# EAGLE library part TLV272CDG4 (library Texas Instruments_By_element14_Batch_1)
OPERATIONAL AMPLIFIERS
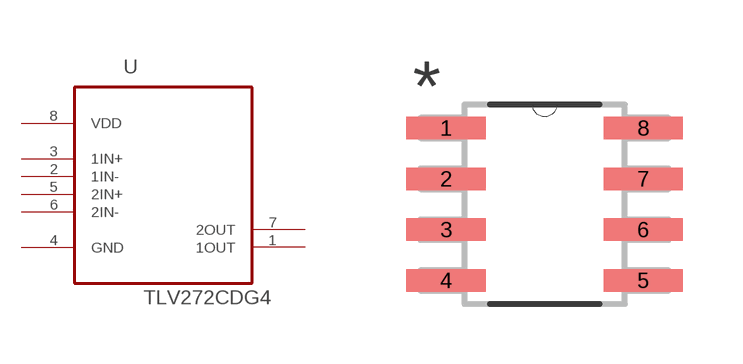
[diagram p0: symbol with the pads of SOIC127P600X175-8N; footprint SOIC127P600X175-8N]

Designator prefix U

## TLV272CDG4 (MPN: TLV272CDG4; OC_FARNELL: 1234856; OC_NEWARK: 13M5572; PACKAGE: SOIC-8; SUPPLIER: TI)  [SOIC127P600X175-8N]
1  1OUT  out
2  1IN-  in
3  1IN+  in
4  GND  pas
5  2IN+  in
6  2IN-  in
7  2OUT  out
8  VDD  pwr

## Footprint SOIC127P600X175-8N (pad centres in mm)
smd 1.981 x 0.559: 1 -2.464,1.905; 2 -2.464,0.635; 3 -2.464,-0.635; 4 -2.464,-1.905; 5 2.464,-1.905; 6 2.464,-0.635; 7 2.464,0.635; 8 2.464,1.905